# EAGLE library part LM3409 (library terahz)
LM3409HV PFET Buck Controller for High Power LED Driver LM3409 / LM3409HV <http://www.national.com/ds/LM/LM3409.pdf>
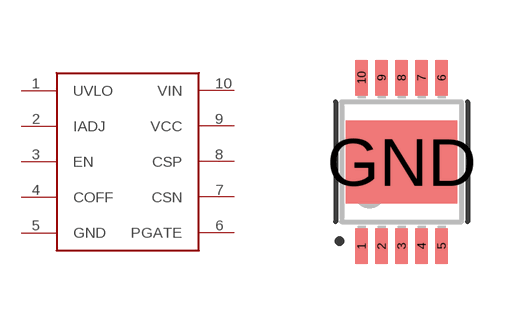
[diagram p0: symbol with the pads of MSOP-10-GNDPAD; footprint MSOP-10-GNDPAD]

Designator prefix -

## LM3409  [MSOP-10-GNDPAD]
1  UVLO
2  IADJ
3  EN
4  COFF
5  GND
6  PGATE
7  CSN
8  CSP
9  VCC
10  VIN

## Footprint MSOP-10-GNDPAD (pad centres in mm)
10-lead MSOP w/ center GND pad
smd 0.305 x 0.889: 1 -1,-2.11; 2 -0.5,-2.11; 3 0,-2.11; 4 0.5,-2.11; 5 1,-2.11; 6 1,2.11; 7 0.5,2.11; 8 0,2.11; 9 -0.5,2.11; 10 -1,2.11
smd 2.794 x 2.083: GND 0,0